# Altium footprint library PCB - LCD - NHD-C12864A1Z RED.PCBLIB: 1 footprints
Each footprint in its own frame and in the unit in brackets; x right, y up, seen from the top. Pads: shape width x height; smd on the part's side, far side on the other; paste and mask are expansions set on the pad; w line width, h text height; cw(c..) or ccw(c..) is an arc to the next point about the centre after c.
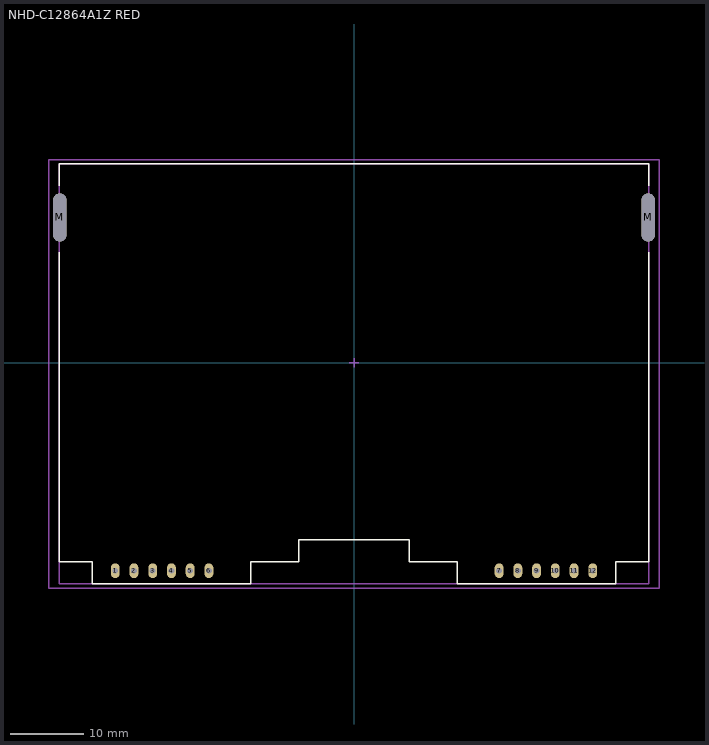
[diagram p0: the footprint, top view; thin cyan lines are the x and y axes]

## NHD-C12864A1Z RED [mm]
height 7
pads (14):
  oval 1.2x2 hole 0.8: 1(-32.38,-28.2) 2(-29.84,-28.2) 3(-27.3,-28.2) 4(-24.76,-28.2) 5(-22.22,-28.2) 6(-19.68,-28.2) 7(19.68,-28.2) 8(22.22,-28.2) 9(24.76,-28.2) 10(27.3,-28.2) 11(29.84,-28.2) 12(32.38,-28.2)
  oval 1.8x6.5 hole 1.8 slot 6.5 at 90 deg unplated: M(-39.9,19.7) M(39.9,19.7)
Top Overlay:
  lines w0.2: -40,15 -40,-27 -35.5,-27 -35.5,-30 -14,-30 -14,-27 -7.5,-27 -7.5,-24 0,-24 7.5,-24 7.5,-27 14,-27 14,-30 35.5,-30 35.5,-27 40,-27 40,15 ; -40,24 -40,27 0,27 40,27 40,24
Mechanical 13:
  lines w0.2: -40,-30 -40,27 40,27 40,-30 -40,-30
Mechanical 15:
  lines w0.2: -0.635,0 0.635,0 ; 0,-0.635 0,0.635 ; -41.402,-30.607 -41.402,27.559 41.402,27.559 41.402,-30.607 -41.402,-30.607
3D body "NHD-C12864A1Z RED.STEP": height 7, standoff -6.6, extent -40,-30 40,27